# Altium integrated library IR Rectifier - Standard Recovery.IntLib: 457 symbols (part 4 of 6)
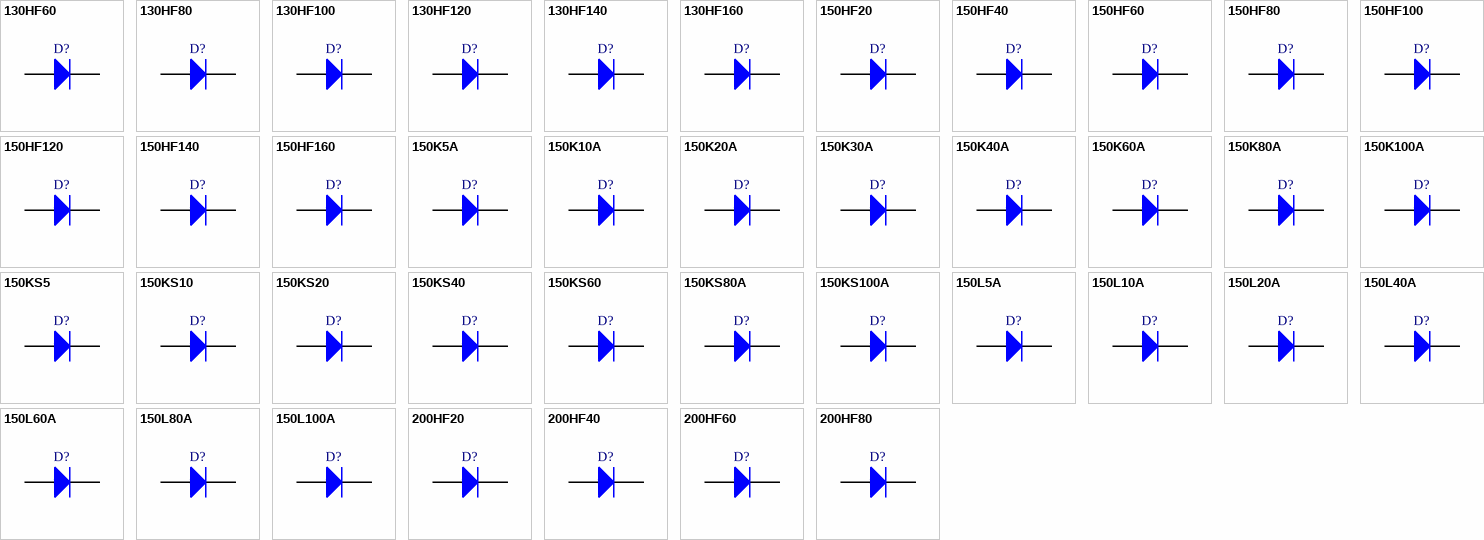
[diagram p14: symbols 130HF60 to 200HF80]

## 150K30A
designator D?
Standard Recovery Diode; Note: No PCB Footprint Available; Published: 8-Jun-2000; LatestRevisionDate: 17-Jul-2002; LatestRevisionNote: Re-released for DXP Platform.; DatasheetVersion: Jan-1997; PackageReference: DO-205AA; Publisher: Altium Limited; ComponentLink1Description: Manufacturer Link; ComponentLink1URL: http://www.irf.com/; ComponentLink2Description: Datasheet; ComponentLink2URL: http://www.irf.com/product-info/datasheets/data/150k.pdf
simulation model 150K30A (DIODE)
signal-integrity model 150K30A
pins: 1 A, 2 K

## 150K40A
designator D?
Standard Recovery Diode; Note: No PCB Footprint Available; Published: 8-Jun-2000; LatestRevisionDate: 17-Jul-2002; LatestRevisionNote: Re-released for DXP Platform.; DatasheetVersion: Jan-1997; PackageReference: DO-205AA; Publisher: Altium Limited; ComponentLink1Description: Manufacturer Link; ComponentLink1URL: http://www.irf.com/; ComponentLink2Description: Datasheet; ComponentLink2URL: http://www.irf.com/product-info/datasheets/data/150k.pdf
simulation model 150K40A (DIODE)
signal-integrity model 150K40A
pins: 1 A, 2 K

## 150K60A
designator D?
Standard Recovery Diode; Note: No PCB Footprint Available; Published: 8-Jun-2000; LatestRevisionDate: 17-Jul-2002; LatestRevisionNote: Re-released for DXP Platform.; DatasheetVersion: Jan-1997; PackageReference: DO-205AA; Publisher: Altium Limited; ComponentLink1Description: Manufacturer Link; ComponentLink1URL: http://www.irf.com/; ComponentLink2Description: Datasheet; ComponentLink2URL: http://www.irf.com/product-info/datasheets/data/150k.pdf
simulation model 150K60A (DIODE)
signal-integrity model 150K60A
pins: 1 A, 2 K

## 150K80A
designator D?
Standard Recovery Diode; Note: No PCB Footprint Available; Published: 8-Jun-2000; LatestRevisionDate: 17-Jul-2002; LatestRevisionNote: Re-released for DXP Platform.; DatasheetVersion: Jan-1997; PackageReference: DO-205AA; Publisher: Altium Limited; ComponentLink1Description: Manufacturer Link; ComponentLink1URL: http://www.irf.com/; ComponentLink2Description: Datasheet; ComponentLink2URL: http://www.irf.com/product-info/datasheets/data/150k.pdf
simulation model 150K80A (DIODE)
signal-integrity model 150K80A
pins: 1 A, 2 K

## 150K100A
designator D?
Standard Recovery Diode; Note: No PCB Footprint Available; Published: 8-Jun-2000; LatestRevisionDate: 17-Jul-2002; LatestRevisionNote: Re-released for DXP Platform.; DatasheetVersion: Jan-1997; PackageReference: DO-205AA; Publisher: Altium Limited; ComponentLink1Description: Manufacturer Link; ComponentLink1URL: http://www.irf.com/; ComponentLink2Description: Datasheet; ComponentLink2URL: http://www.irf.com/product-info/datasheets/data/150k.pdf
simulation model 150K100A (DIODE)
signal-integrity model 150K100A
pins: 1 A, 2 K

## 150KS5
designator D?
Standard Recovery Diode; Note: No PCB Footprint Available; Published: 8-Jun-2000; LatestRevisionDate: 17-Jul-2002; LatestRevisionNote: Re-released for DXP Platform.; DatasheetVersion: Jan-1997; PackageReference: B-42; Publisher: Altium Limited; ComponentLink1Description: Manufacturer Link; ComponentLink1URL: http://www.irf.com/; ComponentLink2Description: Datasheet; ComponentLink2URL: http://www.irf.com/product-info/datasheets/data/150k.pdf
simulation model 150KS5 (DIODE)
signal-integrity model 150KS5
pins: 1 A, 2 K

## 150KS10
designator D?
Standard Recovery Diode; Note: No PCB Footprint Available; Published: 8-Jun-2000; LatestRevisionDate: 17-Jul-2002; LatestRevisionNote: Re-released for DXP Platform.; DatasheetVersion: Jan-1997; PackageReference: B-42; Publisher: Altium Limited; ComponentLink1Description: Manufacturer Link; ComponentLink1URL: http://www.irf.com/; ComponentLink2Description: Datasheet; ComponentLink2URL: http://www.irf.com/product-info/datasheets/data/150k.pdf
simulation model 150KS10 (DIODE)
signal-integrity model 150KS10
pins: 1 A, 2 K

## 150KS20
designator D?
Standard Recovery Diode; Note: No PCB Footprint Available; Published: 8-Jun-2000; LatestRevisionDate: 17-Jul-2002; LatestRevisionNote: Re-released for DXP Platform.; DatasheetVersion: Jan-1997; PackageReference: B-42; Publisher: Altium Limited; ComponentLink1Description: Manufacturer Link; ComponentLink1URL: http://www.irf.com/; ComponentLink2Description: Datasheet; ComponentLink2URL: http://www.irf.com/product-info/datasheets/data/150k.pdf
simulation model 150KS20 (DIODE)
signal-integrity model 150KS20
pins: 1 A, 2 K

## 150KS40
designator D?
Standard Recovery Diode; Note: No PCB Footprint Available; Published: 8-Jun-2000; LatestRevisionDate: 17-Jul-2002; LatestRevisionNote: Re-released for DXP Platform.; DatasheetVersion: Jan-1997; PackageReference: B-42; Publisher: Altium Limited; ComponentLink1Description: Manufacturer Link; ComponentLink1URL: http://www.irf.com/; ComponentLink2Description: Datasheet; ComponentLink2URL: http://www.irf.com/product-info/datasheets/data/150k.pdf
simulation model 150KS40 (DIODE)
signal-integrity model 150KS40
pins: 1 A, 2 K

## 150KS60
designator D?
Standard Recovery Diode; Note: No PCB Footprint Available; Published: 8-Jun-2000; LatestRevisionDate: 17-Jul-2002; LatestRevisionNote: Re-released for DXP Platform.; DatasheetVersion: Jan-1997; PackageReference: B-42; Publisher: Altium Limited; ComponentLink1Description: Manufacturer Link; ComponentLink1URL: http://www.irf.com/; ComponentLink2Description: Datasheet; ComponentLink2URL: http://www.irf.com/product-info/datasheets/data/150k.pdf
simulation model 150KS60 (DIODE)
signal-integrity model 150KS60
pins: 1 A, 2 K

## 150KS80A
designator D?
Standard Recovery Diode; Note: No PCB Footprint Available; Published: 8-Jun-2000; LatestRevisionDate: 17-Jul-2002; LatestRevisionNote: Re-released for DXP Platform.; DatasheetVersion: Jan-1997; PackageReference: B-42; Publisher: Altium Limited; ComponentLink1Description: Manufacturer Link; ComponentLink1URL: http://www.irf.com/; ComponentLink2Description: Datasheet; ComponentLink2URL: http://www.irf.com/product-info/datasheets/data/150k.pdf
simulation model 150KS80A (DIODE)
signal-integrity model 150KS80A
pins: 1 A, 2 K

## 150KS100A
designator D?
Standard Recovery Diode; Note: No PCB Footprint Available; Published: 8-Jun-2000; LatestRevisionDate: 17-Jul-2002; LatestRevisionNote: Re-released for DXP Platform.; DatasheetVersion: Jan-1997; PackageReference: B-42; Publisher: Altium Limited; ComponentLink1Description: Manufacturer Link; ComponentLink1URL: http://www.irf.com/; ComponentLink2Description: Datasheet; ComponentLink2URL: http://www.irf.com/product-info/datasheets/data/150k.pdf
simulation model 150KS100A (DIODE)
signal-integrity model 150KS100A
pins: 1 A, 2 K

## 150L5A
designator D?
Standard Recovery Diode; Note: No PCB Footprint Available; Published: 8-Jun-2000; LatestRevisionDate: 17-Jul-2002; LatestRevisionNote: Re-released for DXP Platform.; DatasheetVersion: Jan-1997; PackageReference: DO-205AA; Publisher: Altium Limited; ComponentLink1Description: Manufacturer Link; ComponentLink1URL: http://www.irf.com/; ComponentLink2Description: Datasheet; ComponentLink2URL: http://www.irf.com/product-info/datasheets/data/150k.pdf
simulation model 150L5A (DIODE)
signal-integrity model 150L5A
pins: 1 A, 2 K

## 150L10A
designator D?
Standard Recovery Diode; Note: No PCB Footprint Available; Published: 8-Jun-2000; LatestRevisionDate: 17-Jul-2002; LatestRevisionNote: Re-released for DXP Platform.; DatasheetVersion: Jan-1997; PackageReference: DO-205AA; Publisher: Altium Limited; ComponentLink1Description: Manufacturer Link; ComponentLink1URL: http://www.irf.com/; ComponentLink2Description: Datasheet; ComponentLink2URL: http://www.irf.com/product-info/datasheets/data/150k.pdf
simulation model 150L10A (DIODE)
signal-integrity model 150L10A
pins: 1 A, 2 K

## 150L20A
designator D?
Standard Recovery Diode; Note: No PCB Footprint Available; Published: 8-Jun-2000; LatestRevisionDate: 17-Jul-2002; LatestRevisionNote: Re-released for DXP Platform.; DatasheetVersion: Jan-1997; PackageReference: DO-205AA; Publisher: Altium Limited; ComponentLink1Description: Manufacturer Link; ComponentLink1URL: http://www.irf.com/; ComponentLink2Description: Datasheet; ComponentLink2URL: http://www.irf.com/product-info/datasheets/data/150k.pdf
simulation model 150L20A (DIODE)
signal-integrity model 150L20A
pins: 1 A, 2 K

## 150L40A
designator D?
Standard Recovery Diode; Note: No PCB Footprint Available; Published: 8-Jun-2000; LatestRevisionDate: 17-Jul-2002; LatestRevisionNote: Re-released for DXP Platform.; DatasheetVersion: Jan-1997; PackageReference: DO-205AA; Publisher: Altium Limited; ComponentLink1Description: Manufacturer Link; ComponentLink1URL: http://www.irf.com/; ComponentLink2Description: Datasheet; ComponentLink2URL: http://www.irf.com/product-info/datasheets/data/150k.pdf
simulation model 150L40A (DIODE)
signal-integrity model 150L40A
pins: 1 A, 2 K

## 150L60A
designator D?
Standard Recovery Diode; Note: No PCB Footprint Available; Published: 8-Jun-2000; LatestRevisionDate: 17-Jul-2002; LatestRevisionNote: Re-released for DXP Platform.; DatasheetVersion: Jan-1997; PackageReference: DO-205AA; Publisher: Altium Limited; ComponentLink1Description: Manufacturer Link; ComponentLink1URL: http://www.irf.com/; ComponentLink2Description: Datasheet; ComponentLink2URL: http://www.irf.com/product-info/datasheets/data/150k.pdf
simulation model 150L60A (DIODE)
signal-integrity model 150L60A
pins: 1 A, 2 K

## 150L80A
designator D?
Standard Recovery Diode; Note: No PCB Footprint Available; Published: 8-Jun-2000; LatestRevisionDate: 17-Jul-2002; LatestRevisionNote: Re-released for DXP Platform.; DatasheetVersion: Jan-1997; PackageReference: DO-205AA; Publisher: Altium Limited; ComponentLink1Description: Manufacturer Link; ComponentLink1URL: http://www.irf.com/; ComponentLink2Description: Datasheet; ComponentLink2URL: http://www.irf.com/product-info/datasheets/data/150k.pdf
simulation model 150L80A (DIODE)
signal-integrity model 150L80A
pins: 1 A, 2 K

## 150L100A
designator D?
Standard Recovery Diode; Note: No PCB Footprint Available; Published: 8-Jun-2000; LatestRevisionDate: 17-Jul-2002; LatestRevisionNote: Re-released for DXP Platform.; DatasheetVersion: Jan-1997; PackageReference: DO-205AA; Publisher: Altium Limited; ComponentLink1Description: Manufacturer Link; ComponentLink1URL: http://www.irf.com/; ComponentLink2Description: Datasheet; ComponentLink2URL: http://www.irf.com/product-info/datasheets/data/150k.pdf
simulation model 150L100A (DIODE)
signal-integrity model 150L100A
pins: 1 A, 2 K

## 200HF20
designator D?
200 Amp Average Medium Power Silicon Rectifier Diode; Note: No PCB Footprint Available; Published: 8-Jun-2000; LatestRevisionDate: 17-Jul-2002; LatestRevisionNote: Re-released for DXP Platform.; DatasheetVersion: Aug-1990; PackageReference: DO-205AC; Publisher: Altium Limited; ComponentLink1Description: Manufacturer Link; ComponentLink1URL: http://www.irf.com/
simulation model 200HF20 (DIODE)
signal-integrity model 200HF20
pins: 1 A, 2 K

## 200HF40
designator D?
Standard Recovery Diode; Note: No PCB Footprint Available; Published: 8-Jun-2000; LatestRevisionDate: 17-Jul-2002; LatestRevisionNote: Re-released for DXP Platform.; DatasheetVersion: Jul-1994; PackageReference: DO-205AC; Publisher: Altium Limited; ComponentLink1Description: Manufacturer Link; ComponentLink1URL: http://www.irf.com/; ComponentLink2Description: Datasheet; ComponentLink2URL: http://www.irf.com/product-info/datasheets/data/200hf.pdf
simulation model 200HF40 (DIODE)
signal-integrity model 200HF40
pins: 1 A, 2 K

## 200HF60
designator D?
200 Amp Average Medium Power Silicon Rectifier Diode; Note: No PCB Footprint Available; Published: 8-Jun-2000; LatestRevisionDate: 17-Jul-2002; LatestRevisionNote: Re-released for DXP Platform.; DatasheetVersion: Aug-1990; PackageReference: DO-205AC; Publisher: Altium Limited; ComponentLink1Description: Manufacturer Link; ComponentLink1URL: http://www.irf.com/
simulation model 200HF60 (DIODE)
signal-integrity model 200HF60
pins: 1 A, 2 K

## 200HF80
designator D?
Standard Recovery Diode; Note: No PCB Footprint Available; Published: 8-Jun-2000; LatestRevisionDate: 17-Jul-2002; LatestRevisionNote: Re-released for DXP Platform.; DatasheetVersion: Jul-1994; PackageReference: DO-205AC; Publisher: Altium Limited; ComponentLink1Description: Manufacturer Link; ComponentLink1URL: http://www.irf.com/; ComponentLink2Description: Datasheet; ComponentLink2URL: http://www.irf.com/product-info/datasheets/data/200hf.pdf
simulation model 200HF80 (DIODE)
signal-integrity model 200HF80
pins: 1 A, 2 K

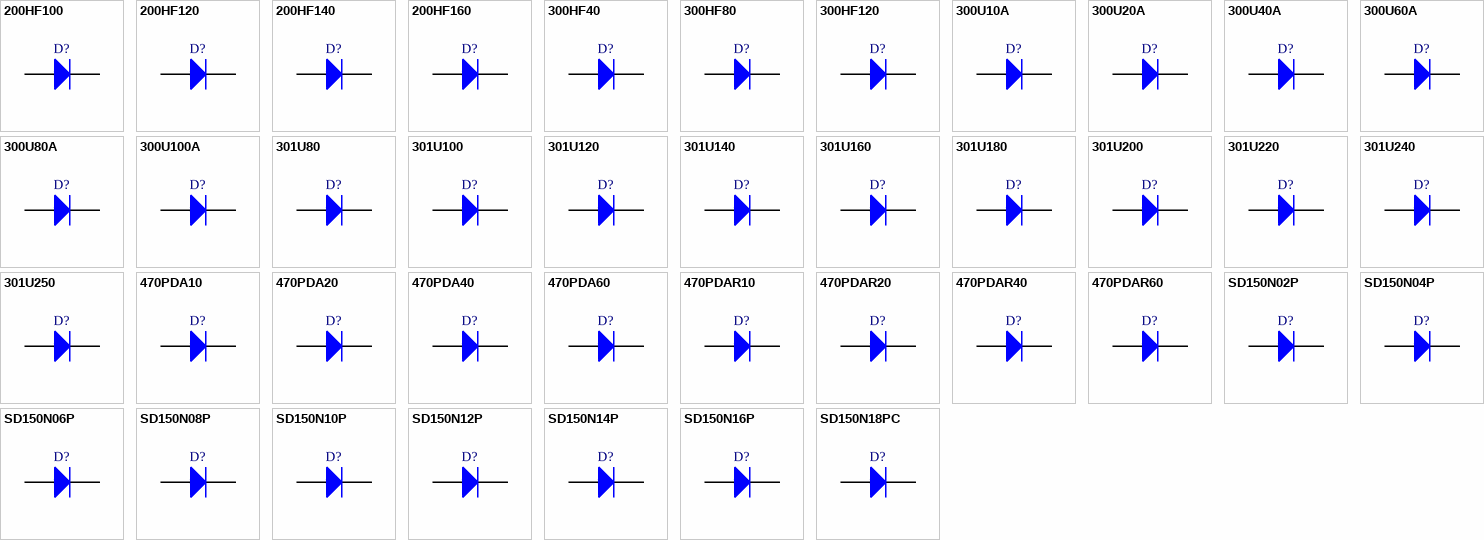
[diagram p7: symbols 200HF100 to SD150N18PC]

## 200HF100
designator D?
200 Amp Average Medium Power Silicon Rectifier Diode; Note: No PCB Footprint Available; Published: 8-Jun-2000; LatestRevisionDate: 17-Jul-2002; LatestRevisionNote: Re-released for DXP Platform.; DatasheetVersion: Aug-1990; PackageReference: DO-205AC; Publisher: Altium Limited; ComponentLink1Description: Manufacturer Link; ComponentLink1URL: http://www.irf.com/
simulation model 200HF100 (DIODE)
signal-integrity model 200HF100
pins: 1 A, 2 K

## 200HF120
designator D?
Standard Recovery Diode; Note: No PCB Footprint Available; Published: 8-Jun-2000; LatestRevisionDate: 17-Jul-2002; LatestRevisionNote: Re-released for DXP Platform.; DatasheetVersion: Jul-1994; PackageReference: DO-205AC; Publisher: Altium Limited; ComponentLink1Description: Manufacturer Link; ComponentLink1URL: http://www.irf.com/; ComponentLink2Description: Datasheet; ComponentLink2URL: http://www.irf.com/product-info/datasheets/data/200hf.pdf
simulation model 200HF120 (DIODE)
signal-integrity model 200HF120
pins: 1 A, 2 K

## 200HF140
designator D?
200 Amp Average Medium Power Silicon Rectifier Diode; Note: No PCB Footprint Available; Published: 8-Jun-2000; LatestRevisionDate: 17-Jul-2002; LatestRevisionNote: Re-released for DXP Platform.; DatasheetVersion: Aug-1990; PackageReference: DO-205AC; Publisher: Altium Limited; ComponentLink1Description: Manufacturer Link; ComponentLink1URL: http://www.irf.com/
simulation model 200HF140 (DIODE)
signal-integrity model 200HF140
pins: 1 A, 2 K

## 200HF160
designator D?
200 Amp Average Medium Power Silicon Rectifier Diode; Note: No PCB Footprint Available; Published: 8-Jun-2000; LatestRevisionDate: 17-Jul-2002; LatestRevisionNote: Re-released for DXP Platform.; DatasheetVersion: Aug-1990; PackageReference: DO-205AC; Publisher: Altium Limited; ComponentLink1Description: Manufacturer Link; ComponentLink1URL: http://www.irf.com/
simulation model 200HF160 (DIODE)
signal-integrity model 200HF160
pins: 1 A, 2 K

## 300HF40
designator D?
Standard Recovery Diode; Note: No PCB Footprint Available; Published: 8-Jun-2000; LatestRevisionDate: 17-Jul-2002; LatestRevisionNote: Re-released for DXP Platform.; DatasheetVersion: Jul-1994; PackageReference: DO-205AB; Publisher: Altium Limited; ComponentLink1Description: Manufacturer Link; ComponentLink1URL: http://www.irf.com/; ComponentLink2Description: Datasheet; ComponentLink2URL: http://www.irf.com/product-info/datasheets/data/300hf.pdf
simulation model 300HF40 (DIODE)
signal-integrity model 300HF40
pins: 1 A, 2 K

## 300HF80
designator D?
Standard Recovery Diode; Note: No PCB Footprint Available; Published: 8-Jun-2000; LatestRevisionDate: 17-Jul-2002; LatestRevisionNote: Re-released for DXP Platform.; DatasheetVersion: Jul-1994; PackageReference: DO-205AB; Publisher: Altium Limited; ComponentLink1Description: Manufacturer Link; ComponentLink1URL: http://www.irf.com/; ComponentLink2Description: Datasheet; ComponentLink2URL: http://www.irf.com/product-info/datasheets/data/300hf.pdf
simulation model 300HF80 (DIODE)
signal-integrity model 300HF80
pins: 1 A, 2 K

## 300HF120
designator D?
Standard Recovery Diode; Note: No PCB Footprint Available; Published: 8-Jun-2000; LatestRevisionDate: 17-Jul-2002; LatestRevisionNote: Re-released for DXP Platform.; DatasheetVersion: Jul-1994; PackageReference: DO-205AB; Publisher: Altium Limited; ComponentLink1Description: Manufacturer Link; ComponentLink1URL: http://www.irf.com/; ComponentLink2Description: Datasheet; ComponentLink2URL: http://www.irf.com/product-info/datasheets/data/300hf.pdf
simulation model 300HF120 (DIODE)
signal-integrity model 300HF120
pins: 1 A, 2 K

## 300U10A
designator D?
300 Amp Avg Power Silicon Rectifier Diode; Note: No PCB Footprint Available; Published: 8-Jun-2000; LatestRevisionDate: 17-Jul-2002; LatestRevisionNote: Re-released for DXP Platform.; DatasheetVersion: Jan-1986; PackageReference: DO-205AB; Publisher: Altium Limited; ComponentLink1Description: Manufacturer Link; ComponentLink1URL: http://www.irf.com/; ComponentLink2Description: Datasheet; ComponentLink2URL: http://www.irf.com/product-info/datasheets/data/70u.pdf
simulation model 300U10A (DIODE)
signal-integrity model 300U10A
pins: 1 A, 2 K

## 300U20A
designator D?
300 Amp Avg Power Silicon Rectifier Diode; Note: No PCB Footprint Available; Published: 8-Jun-2000; LatestRevisionDate: 17-Jul-2002; LatestRevisionNote: Re-released for DXP Platform.; DatasheetVersion: Jan-1986; PackageReference: DO-205AB; Publisher: Altium Limited; ComponentLink1Description: Manufacturer Link; ComponentLink1URL: http://www.irf.com/; ComponentLink2Description: Datasheet; ComponentLink2URL: http://www.irf.com/product-info/datasheets/data/70u.pdf
simulation model 300U20A (DIODE)
signal-integrity model 300U20A
pins: 1 A, 2 K

## 300U40A
designator D?
300 Amp Avg Power Silicon Rectifier Diode; Note: No PCB Footprint Available; Published: 8-Jun-2000; LatestRevisionDate: 17-Jul-2002; LatestRevisionNote: Re-released for DXP Platform.; DatasheetVersion: Jan-1986; PackageReference: DO-205AB; Publisher: Altium Limited; ComponentLink1Description: Manufacturer Link; ComponentLink1URL: http://www.irf.com/; ComponentLink2Description: Datasheet; ComponentLink2URL: http://www.irf.com/product-info/datasheets/data/70u.pdf
simulation model 300U40A (DIODE)
signal-integrity model 300U40A
pins: 1 A, 2 K

## 300U60A
designator D?
300 Amp Avg Power Silicon Rectifier Diode; Note: No PCB Footprint Available; Published: 8-Jun-2000; LatestRevisionDate: 17-Jul-2002; LatestRevisionNote: Re-released for DXP Platform.; DatasheetVersion: Jan-1986; PackageReference: DO-205AB; Publisher: Altium Limited; ComponentLink1Description: Manufacturer Link; ComponentLink1URL: http://www.irf.com/; ComponentLink2Description: Datasheet; ComponentLink2URL: http://www.irf.com/product-info/datasheets/data/70u.pdf
simulation model 300U60A (DIODE)
signal-integrity model 300U60A
pins: 1 A, 2 K

## 300U80A
designator D?
300 Amp Avg Power Silicon Rectifier Diode; Note: No PCB Footprint Available; Published: 8-Jun-2000; LatestRevisionDate: 17-Jul-2002; LatestRevisionNote: Re-released for DXP Platform.; DatasheetVersion: Jan-1986; PackageReference: DO-205AB; Publisher: Altium Limited; ComponentLink1Description: Manufacturer Link; ComponentLink1URL: http://www.irf.com/; ComponentLink2Description: Datasheet; ComponentLink2URL: http://www.irf.com/product-info/datasheets/data/70u.pdf
simulation model 300U80A (DIODE)
signal-integrity model 300U80A
pins: 1 A, 2 K

## 300U100A
designator D?
300 Amp Avg Power Silicon Rectifier Diode; Note: No PCB Footprint Available; Published: 8-Jun-2000; LatestRevisionDate: 17-Jul-2002; LatestRevisionNote: Re-released for DXP Platform.; DatasheetVersion: Jan-1986; PackageReference: DO-205AB; Publisher: Altium Limited; ComponentLink1Description: Manufacturer Link; ComponentLink1URL: http://www.irf.com/; ComponentLink2Description: Datasheet; ComponentLink2URL: http://www.irf.com/product-info/datasheets/data/70u.pdf
simulation model 300U100A (DIODE)
signal-integrity model 300U100A
pins: 1 A, 2 K

## 301U80
designator D?
Standard Recovery Diode; Note: No PCB Footprint Available; Published: 8-Jun-2000; LatestRevisionDate: 17-Jul-2002; LatestRevisionNote: Re-released for DXP Platform.; DatasheetVersion: Dec-1994; PackageReference: DO-205AB; Publisher: Altium Limited; ComponentLink1Description: Manufacturer Link; ComponentLink1URL: http://www.irf.com/; ComponentLink2Description: Datasheet; ComponentLink2URL: http://www.irf.com/product-info/datasheets/data/301u.pdf
simulation model 301U80 (DIODE)
signal-integrity model 301U80
pins: 1 A, 2 K

## 301U100
designator D?
Standard Recovery Rectifier; Note: No PCB Footprint Available; Published: 8-Jun-2000; LatestRevisionDate: 17-Jul-2002; LatestRevisionNote: Re-released for DXP Platform.; DatasheetVersion: Dec-1989; PackageReference: DO-205AB; Publisher: Altium Limited; ComponentLink1Description: Manufacturer Link; ComponentLink1URL: http://www.irf.com/
simulation model 301U100 (DIODE)
signal-integrity model 301U100
pins: 1 A, 2 K

## 301U120
designator D?
Standard Recovery Diode; Note: No PCB Footprint Available; Published: 8-Jun-2000; LatestRevisionDate: 17-Jul-2002; LatestRevisionNote: Re-released for DXP Platform.; DatasheetVersion: Dec-1994; PackageReference: DO-205AB; Publisher: Altium Limited; ComponentLink1Description: Manufacturer Link; ComponentLink1URL: http://www.irf.com/; ComponentLink2Description: Datasheet; ComponentLink2URL: http://www.irf.com/product-info/datasheets/data/301u.pdf
simulation model 301U120 (DIODE)
signal-integrity model 301U120
pins: 1 A, 2 K

## 301U140
designator D?
Standard Recovery Rectifier; Note: No PCB Footprint Available; Published: 8-Jun-2000; LatestRevisionDate: 17-Jul-2002; LatestRevisionNote: Re-released for DXP Platform.; DatasheetVersion: Dec-1989; PackageReference: DO-205AB; Publisher: Altium Limited; ComponentLink1Description: Manufacturer Link; ComponentLink1URL: http://www.irf.com/
simulation model 301U140 (DIODE)
signal-integrity model 301U140
pins: 1 A, 2 K

## 301U160
designator D?
Standard Recovery Diode; Note: No PCB Footprint Available; Published: 8-Jun-2000; LatestRevisionDate: 17-Jul-2002; LatestRevisionNote: Re-released for DXP Platform.; DatasheetVersion: Dec-1994; PackageReference: DO-205AB; Publisher: Altium Limited; ComponentLink1Description: Manufacturer Link; ComponentLink1URL: http://www.irf.com/; ComponentLink2Description: Datasheet; ComponentLink2URL: http://www.irf.com/product-info/datasheets/data/301u.pdf
simulation model 301U160 (DIODE)
signal-integrity model 301U160
pins: 1 A, 2 K

## 301U180
designator D?
Standard Recovery Rectifier; Note: No PCB Footprint Available; Published: 8-Jun-2000; LatestRevisionDate: 17-Jul-2002; LatestRevisionNote: Re-released for DXP Platform.; DatasheetVersion: Dec-1989; PackageReference: DO-205AB; Publisher: Altium Limited; ComponentLink1Description: Manufacturer Link; ComponentLink1URL: http://www.irf.com/
simulation model 301U180 (DIODE)
signal-integrity model 301U180
pins: 1 A, 2 K

## 301U200
designator D?
Standard Recovery Diode; Note: No PCB Footprint Available; Published: 8-Jun-2000; LatestRevisionDate: 17-Jul-2002; LatestRevisionNote: Re-released for DXP Platform.; DatasheetVersion: Dec-1994; PackageReference: DO-205AB; Publisher: Altium Limited; ComponentLink1Description: Manufacturer Link; ComponentLink1URL: http://www.irf.com/; ComponentLink2Description: Datasheet; ComponentLink2URL: http://www.irf.com/product-info/datasheets/data/301u.pdf
simulation model 301U200 (DIODE)
signal-integrity model 301U200
pins: 1 A, 2 K

## 301U220
designator D?
Standard Recovery Rectifier; Note: No PCB Footprint Available; Published: 8-Jun-2000; LatestRevisionDate: 17-Jul-2002; LatestRevisionNote: Re-released for DXP Platform.; DatasheetVersion: Dec-1989; PackageReference: DO-205AB; Publisher: Altium Limited; ComponentLink1Description: Manufacturer Link; ComponentLink1URL: http://www.irf.com/
simulation model 301U220 (DIODE)
signal-integrity model 301U220
pins: 1 A, 2 K

## 301U240
designator D?
Standard Recovery Rectifier; Note: No PCB Footprint Available; Published: 8-Jun-2000; LatestRevisionDate: 17-Jul-2002; LatestRevisionNote: Re-released for DXP Platform.; DatasheetVersion: Dec-1989; PackageReference: DO-205AB; Publisher: Altium Limited; ComponentLink1Description: Manufacturer Link; ComponentLink1URL: http://www.irf.com/
simulation model 301U240 (DIODE)
signal-integrity model 301U240
pins: 1 A, 2 K

## 301U250
designator D?
Standard Recovery Diode; Note: No PCB Footprint Available; Published: 8-Jun-2000; LatestRevisionDate: 17-Jul-2002; LatestRevisionNote: Re-released for DXP Platform.; DatasheetVersion: Dec-1994; PackageReference: DO-205AB; Publisher: Altium Limited; ComponentLink1Description: Manufacturer Link; ComponentLink1URL: http://www.irf.com/; ComponentLink2Description: Datasheet; ComponentLink2URL: http://www.irf.com/product-info/datasheets/data/301u.pdf
simulation model 301U250 (DIODE)
signal-integrity model 301U250
pins: 1 A, 2 K

## 470PDA10
designator D?
470 Amp Hockey Puk Rectifier Diode; Note: No PCB Footprint Available; Published: 8-Jun-2000; LatestRevisionDate: 17-Jul-2002; LatestRevisionNote: Re-released for DXP Platform.; DatasheetVersion: PD-2.181; PackageReference: DO-200AA; Publisher: Altium Limited; ComponentLink1Description: Manufacturer Link; ComponentLink1URL: http://www.irf.com/
simulation model 470PDA10 (DIODE)
signal-integrity model 470PDA10
pins: 1 A, 2 K

## 470PDA20
designator D?
470 Amp Hockey Puk Rectifier Diode; Note: No PCB Footprint Available; Published: 8-Jun-2000; LatestRevisionDate: 17-Jul-2002; LatestRevisionNote: Re-released for DXP Platform.; DatasheetVersion: PD-2.181; PackageReference: DO-200AA; Publisher: Altium Limited; ComponentLink1Description: Manufacturer Link; ComponentLink1URL: http://www.irf.com/
simulation model 470PDA20 (DIODE)
signal-integrity model 470PDA20
pins: 1 A, 2 K

## 470PDA40
designator D?
470 Amp Hockey Puk Rectifier Diode; Note: No PCB Footprint Available; Published: 8-Jun-2000; LatestRevisionDate: 17-Jul-2002; LatestRevisionNote: Re-released for DXP Platform.; DatasheetVersion: PD-2.181; PackageReference: DO-200AA; Publisher: Altium Limited; ComponentLink1Description: Manufacturer Link; ComponentLink1URL: http://www.irf.com/
simulation model 470PDA40 (DIODE)
signal-integrity model 470PDA40
pins: 1 A, 2 K

## 470PDA60
designator D?
470 Amp Hockey Puk Rectifier Diode; Note: No PCB Footprint Available; Published: 8-Jun-2000; LatestRevisionDate: 17-Jul-2002; LatestRevisionNote: Re-released for DXP Platform.; DatasheetVersion: PD-2.181; PackageReference: DO-200AA; Publisher: Altium Limited; ComponentLink1Description: Manufacturer Link; ComponentLink1URL: http://www.irf.com/
simulation model 470PDA60 (DIODE)
signal-integrity model 470PDA60
pins: 1 A, 2 K

## 470PDAR10
designator D?
Standard Recovery; Note: No PCB Footprint Available; Published: 8-Jun-2000; LatestRevisionDate: 17-Jul-2002; LatestRevisionNote: Re-released for DXP Platform.; DatasheetVersion: Jan-1990; PackageReference: DO-200AA; Publisher: Altium Limited; ComponentLink1Description: Manufacturer Link; ComponentLink1URL: http://www.irf.com/
simulation model 470PDAR10 (DIODE)
signal-integrity model 470PDAR10
pins: 1 K, 2 A

## 470PDAR20
designator D?
Standard Recovery; Note: No PCB Footprint Available; Published: 8-Jun-2000; LatestRevisionDate: 17-Jul-2002; LatestRevisionNote: Re-released for DXP Platform.; DatasheetVersion: Jan-1990; PackageReference: DO-200AA; Publisher: Altium Limited; ComponentLink1Description: Manufacturer Link; ComponentLink1URL: http://www.irf.com/
simulation model 470PDAR20 (DIODE)
signal-integrity model 470PDAR20
pins: 1 K, 2 A

## 470PDAR40
designator D?
Standard Recovery; Note: No PCB Footprint Available; Published: 8-Jun-2000; LatestRevisionDate: 17-Jul-2002; LatestRevisionNote: Re-released for DXP Platform.; DatasheetVersion: Jan-1990; PackageReference: DO-200AA; Publisher: Altium Limited; ComponentLink1Description: Manufacturer Link; ComponentLink1URL: http://www.irf.com/
simulation model 470PDAR40 (DIODE)
signal-integrity model 470PDAR40
pins: 1 K, 2 A

## 470PDAR60
designator D?
Standard Recovery; Note: No PCB Footprint Available; Published: 8-Jun-2000; LatestRevisionDate: 17-Jul-2002; LatestRevisionNote: Re-released for DXP Platform.; DatasheetVersion: Jan-1990; PackageReference: DO-200AA; Publisher: Altium Limited; ComponentLink1Description: Manufacturer Link; ComponentLink1URL: http://www.irf.com/
simulation model 470PDAR60 (DIODE)
signal-integrity model 470PDAR60
pins: 1 K, 2 A

## SD150N02P
designator D?
Standard Recovery Rectifier; Note: No PCB Footprint Available; Published: 8-Jun-2000; LatestRevisionDate: 17-Jul-2002; LatestRevisionNote: Re-released for DXP Platform.; PackageReference: DO-205AC; Publisher: Altium Limited; ComponentLink1Description: Manufacturer Link; ComponentLink1URL: http://www.irf.com/
simulation model SD150N02P (DIODE)
signal-integrity model SD150N02P
pins: 1 A, 2 K

## SD150N04P
designator D?
Standard Recovery Diode; Note: No PCB Footprint Available; Published: 8-Jun-2000; LatestRevisionDate: 17-Jul-2002; LatestRevisionNote: Re-released for DXP Platform.; DatasheetVersion: Jul-1994; PackageReference: DO-205AC; Publisher: Altium Limited; ComponentLink1Description: Manufacturer Link; ComponentLink1URL: http://www.irf.com/; ComponentLink2Description: Datasheet; ComponentLink2URL: http://www.irf.com/product-info/datasheets/data/sd150n.pdf
simulation model SD150N04P (DIODE)
signal-integrity model SD150N04P
pins: 1 A, 2 K

## SD150N06P
designator D?
Standard Recovery Rectifier; Note: No PCB Footprint Available; Published: 8-Jun-2000; LatestRevisionDate: 17-Jul-2002; LatestRevisionNote: Re-released for DXP Platform.; PackageReference: DO-205AC; Publisher: Altium Limited; ComponentLink1Description: Manufacturer Link; ComponentLink1URL: http://www.irf.com/
simulation model SD150N06P (DIODE)
signal-integrity model SD150N06P
pins: 1 A, 2 K

## SD150N08P
designator D?
Standard Recovery Diode; Note: No PCB Footprint Available; Published: 8-Jun-2000; LatestRevisionDate: 17-Jul-2002; LatestRevisionNote: Re-released for DXP Platform.; DatasheetVersion: Jul-1994; PackageReference: DO-205AC; Publisher: Altium Limited; ComponentLink1Description: Manufacturer Link; ComponentLink1URL: http://www.irf.com/; ComponentLink2Description: Datasheet; ComponentLink2URL: http://www.irf.com/product-info/datasheets/data/sd150n.pdf
simulation model SD150N08P (DIODE)
signal-integrity model SD150N08P
pins: 1 A, 2 K

## SD150N10P
designator D?
Standard Recovery Rectifier; Note: No PCB Footprint Available; Published: 8-Jun-2000; LatestRevisionDate: 17-Jul-2002; LatestRevisionNote: Re-released for DXP Platform.; PackageReference: DO-205AC; Publisher: Altium Limited; ComponentLink1Description: Manufacturer Link; ComponentLink1URL: http://www.irf.com/
simulation model SD150N10P (DIODE)
signal-integrity model SD150N10P
pins: 1 A, 2 K

## SD150N12P
designator D?
Standard Recovery Diode; Note: No PCB Footprint Available; Published: 8-Jun-2000; LatestRevisionDate: 17-Jul-2002; LatestRevisionNote: Re-released for DXP Platform.; DatasheetVersion: Jul-1994; PackageReference: DO-205AC; Publisher: Altium Limited; ComponentLink1Description: Manufacturer Link; ComponentLink1URL: http://www.irf.com/; ComponentLink2Description: Datasheet; ComponentLink2URL: http://www.irf.com/product-info/datasheets/data/sd150n.pdf
simulation model SD150N12P (DIODE)
signal-integrity model SD150N12P
pins: 1 A, 2 K

## SD150N14P
designator D?
Standard Recovery Rectifier; Note: No PCB Footprint Available; Published: 8-Jun-2000; LatestRevisionDate: 17-Jul-2002; LatestRevisionNote: Re-released for DXP Platform.; PackageReference: DO-205AC; Publisher: Altium Limited; ComponentLink1Description: Manufacturer Link; ComponentLink1URL: http://www.irf.com/
simulation model SD150N14P (DIODE)
signal-integrity model SD150N14P
pins: 1 A, 2 K

## SD150N16P
designator D?
Standard Recovery Diode; Note: No PCB Footprint Available; Published: 8-Jun-2000; LatestRevisionDate: 17-Jul-2002; LatestRevisionNote: Re-released for DXP Platform.; DatasheetVersion: Jul-1994; PackageReference: DO-205AC; Publisher: Altium Limited; ComponentLink1Description: Manufacturer Link; ComponentLink1URL: http://www.irf.com/; ComponentLink2Description: Datasheet; ComponentLink2URL: http://www.irf.com/product-info/datasheets/data/sd150n.pdf
simulation model SD150N16P (DIODE)
signal-integrity model SD150N16P
pins: 1 A, 2 K

## SD150N18PC
designator D?
Standard Recovery Rectifier; Note: No PCB Footprint Available; Published: 8-Jun-2000; LatestRevisionDate: 17-Jul-2002; LatestRevisionNote: Re-released for DXP Platform.; PackageReference: DO-205AC; Publisher: Altium Limited; ComponentLink1Description: Manufacturer Link; ComponentLink1URL: http://www.irf.com/
simulation model SD150N18PC (DIODE)
signal-integrity model SD150N18PC
pins: 1 A, 2 K

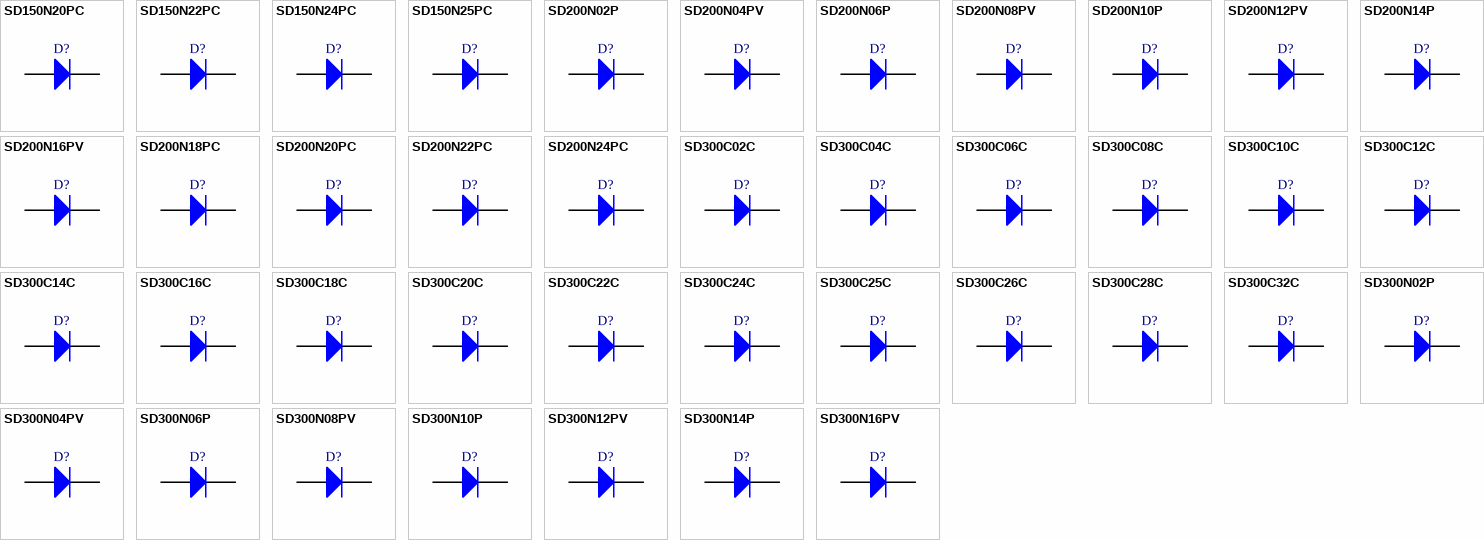
[diagram p8: symbols SD150N20PC to SD300N16PV]

## SD150N20PC
designator D?
Standard Recovery Diode; Note: No PCB Footprint Available; Published: 8-Jun-2000; LatestRevisionDate: 17-Jul-2002; LatestRevisionNote: Re-released for DXP Platform.; DatasheetVersion: Jul-1994; PackageReference: DO-205AC; Publisher: Altium Limited; ComponentLink1Description: Manufacturer Link; ComponentLink1URL: http://www.irf.com/; ComponentLink2Description: Datasheet; ComponentLink2URL: http://www.irf.com/product-info/datasheets/data/sd150n.pdf
simulation model SD150N20PC (DIODE)
signal-integrity model SD150N20PC
pins: 1 A, 2 K

## SD150N22PC
designator D?
Standard Recovery Rectifier; Note: No PCB Footprint Available; Published: 8-Jun-2000; LatestRevisionDate: 17-Jul-2002; LatestRevisionNote: Re-released for DXP Platform.; PackageReference: DO-205AC; Publisher: Altium Limited; ComponentLink1Description: Manufacturer Link; ComponentLink1URL: http://www.irf.com/
simulation model SD150N22PC (DIODE)
signal-integrity model SD150N22PC
pins: 1 A, 2 K

## SD150N24PC
designator D?
Standard Recovery Rectifier; Note: No PCB Footprint Available; Published: 8-Jun-2000; LatestRevisionDate: 17-Jul-2002; LatestRevisionNote: Re-released for DXP Platform.; PackageReference: DO-205AC; Publisher: Altium Limited; ComponentLink1Description: Manufacturer Link; ComponentLink1URL: http://www.irf.com/
simulation model SD150N24PC (DIODE)
signal-integrity model SD150N24PC
pins: 1 A, 2 K

## SD150N25PC
designator D?
Standard Recovery Diode; Note: No PCB Footprint Available; Published: 8-Jun-2000; LatestRevisionDate: 17-Jul-2002; LatestRevisionNote: Re-released for DXP Platform.; DatasheetVersion: Jul-1994; PackageReference: DO-205AC; Publisher: Altium Limited; ComponentLink1Description: Manufacturer Link; ComponentLink1URL: http://www.irf.com/; ComponentLink2Description: Datasheet; ComponentLink2URL: http://www.irf.com/product-info/datasheets/data/sd150n.pdf
simulation model SD150N25PC (DIODE)
signal-integrity model SD150N25PC
pins: 1 A, 2 K

## SD200N02P
designator D?
Standard Recovery Rectifier; Note: No PCB Footprint Available; Published: 8-Jun-2000; LatestRevisionDate: 17-Jul-2002; LatestRevisionNote: Re-released for DXP Platform.; DatasheetVersion: Dec-1989; PackageReference: DO-205AC; Publisher: Altium Limited; ComponentLink1Description: Manufacturer Link; ComponentLink1URL: http://www.irf.com/
simulation model SD200N02P (DIODE)
signal-integrity model SD200N02P
pins: 1 A, 2 K

## SD200N04PV
designator D?
Standard Recovery Diode; Note: No PCB Footprint Available; Published: 8-Jun-2000; LatestRevisionDate: 17-Jul-2002; LatestRevisionNote: Re-released for DXP Platform.; DatasheetVersion: Jul-1994; PackageReference: DO-205AC; Publisher: Altium Limited; ComponentLink1Description: Manufacturer Link; ComponentLink1URL: http://www.irf.com/; ComponentLink2Description: Datasheet; ComponentLink2URL: http://www.irf.com/product-info/datasheets/data/sd200n.pdf
simulation model SD200N04PV (DIODE)
signal-integrity model SD200N04PV
pins: 1 A, 2 K

## SD200N06P
designator D?
Standard Recovery Rectifier; Note: No PCB Footprint Available; Published: 8-Jun-2000; LatestRevisionDate: 17-Jul-2002; LatestRevisionNote: Re-released for DXP Platform.; DatasheetVersion: Dec-1989; PackageReference: DO-205AC; Publisher: Altium Limited; ComponentLink1Description: Manufacturer Link; ComponentLink1URL: http://www.irf.com/
simulation model SD200N06P (DIODE)
signal-integrity model SD200N06P
pins: 1 A, 2 K

## SD200N08PV
designator D?
Standard Recovery Diode; Note: No PCB Footprint Available; Published: 8-Jun-2000; LatestRevisionDate: 17-Jul-2002; LatestRevisionNote: Re-released for DXP Platform.; DatasheetVersion: Jul-1994; PackageReference: DO-205AC; Publisher: Altium Limited; ComponentLink1Description: Manufacturer Link; ComponentLink1URL: http://www.irf.com/; ComponentLink2Description: Datasheet; ComponentLink2URL: http://www.irf.com/product-info/datasheets/data/sd200n.pdf
simulation model SD200N08PV (DIODE)
signal-integrity model SD200N08PV
pins: 1 A, 2 K

## SD200N10P
designator D?
Standard Recovery Rectifier; Note: No PCB Footprint Available; Published: 8-Jun-2000; LatestRevisionDate: 17-Jul-2002; LatestRevisionNote: Re-released for DXP Platform.; DatasheetVersion: Dec-1989; PackageReference: DO-205AC; Publisher: Altium Limited; ComponentLink1Description: Manufacturer Link; ComponentLink1URL: http://www.irf.com/
simulation model SD200N10P (DIODE)
signal-integrity model SD200N10P
pins: 1 A, 2 K

## SD200N12PV
designator D?
Standard Recovery Diode; Note: No PCB Footprint Available; Published: 8-Jun-2000; LatestRevisionDate: 17-Jul-2002; LatestRevisionNote: Re-released for DXP Platform.; DatasheetVersion: Jul-1994; PackageReference: DO-205AC; Publisher: Altium Limited; ComponentLink1Description: Manufacturer Link; ComponentLink1URL: http://www.irf.com/; ComponentLink2Description: Datasheet; ComponentLink2URL: http://www.irf.com/product-info/datasheets/data/sd200n.pdf
simulation model SD200N12PV (DIODE)
signal-integrity model SD200N12PV
pins: 1 A, 2 K

## SD200N14P
designator D?
Standard Recovery Rectifier; Note: No PCB Footprint Available; Published: 8-Jun-2000; LatestRevisionDate: 17-Jul-2002; LatestRevisionNote: Re-released for DXP Platform.; DatasheetVersion: Dec-1989; PackageReference: DO-205AC; Publisher: Altium Limited; ComponentLink1Description: Manufacturer Link; ComponentLink1URL: http://www.irf.com/
simulation model SD200N14P (DIODE)
signal-integrity model SD200N14P
pins: 1 A, 2 K

## SD200N16PV
designator D?
Standard Recovery Diode; Note: No PCB Footprint Available; Published: 8-Jun-2000; LatestRevisionDate: 17-Jul-2002; LatestRevisionNote: Re-released for DXP Platform.; DatasheetVersion: Jul-1994; PackageReference: DO-205AC; Publisher: Altium Limited; ComponentLink1Description: Manufacturer Link; ComponentLink1URL: http://www.irf.com/; ComponentLink2Description: Datasheet; ComponentLink2URL: http://www.irf.com/product-info/datasheets/data/sd200n.pdf
simulation model SD200N16PV (DIODE)
signal-integrity model SD200N16PV
pins: 1 A, 2 K

## SD200N18PC
designator D?
Standard Recovery Rectifier; Note: No PCB Footprint Available; Published: 8-Jun-2000; LatestRevisionDate: 17-Jul-2002; LatestRevisionNote: Re-released for DXP Platform.; DatasheetVersion: Dec-1989; PackageReference: DO-205AC; Publisher: Altium Limited; ComponentLink1Description: Manufacturer Link; ComponentLink1URL: http://www.irf.com/
simulation model SD200N18PC (DIODE)
signal-integrity model SD200N18PC
pins: 1 A, 2 K

## SD200N20PC
designator D?
Standard Recovery Diode; Note: No PCB Footprint Available; Published: 8-Jun-2000; LatestRevisionDate: 17-Jul-2002; LatestRevisionNote: Re-released for DXP Platform.; DatasheetVersion: Jul-1994; PackageReference: DO-205AC; Publisher: Altium Limited; ComponentLink1Description: Manufacturer Link; ComponentLink1URL: http://www.irf.com/; ComponentLink2Description: Datasheet; ComponentLink2URL: http://www.irf.com/product-info/datasheets/data/sd200n.pdf
simulation model SD200N20PC (DIODE)
signal-integrity model SD200N20PC
pins: 1 A, 2 K

## SD200N22PC
designator D?
Standard Recovery Rectifier; Note: No PCB Footprint Available; Published: 8-Jun-2000; LatestRevisionDate: 17-Jul-2002; LatestRevisionNote: Re-released for DXP Platform.; DatasheetVersion: Dec-1989; PackageReference: DO-205AC; Publisher: Altium Limited; ComponentLink1Description: Manufacturer Link; ComponentLink1URL: http://www.irf.com/
simulation model SD200N22PC (DIODE)
signal-integrity model SD200N22PC
pins: 1 A, 2 K

## SD200N24PC
designator D?
Standard Recovery Diode; Note: No PCB Footprint Available; Published: 8-Jun-2000; LatestRevisionDate: 17-Jul-2002; LatestRevisionNote: Re-released for DXP Platform.; DatasheetVersion: Jul-1994; PackageReference: DO-205AC; Publisher: Altium Limited; ComponentLink1Description: Manufacturer Link; ComponentLink1URL: http://www.irf.com/; ComponentLink2Description: Datasheet; ComponentLink2URL: http://www.irf.com/product-info/datasheets/data/sd200n.pdf
simulation model SD200N24PC (DIODE)
signal-integrity model SD200N24PC
pins: 1 A, 2 K

## SD300C02C
designator D?
Standard Recovery Rectifier; Note: No PCB Footprint Available; Published: 8-Jun-2000; LatestRevisionDate: 17-Jul-2002; LatestRevisionNote: Re-released for DXP Platform.; DatasheetVersion: Dec-1989; PackageReference: DO-200AA; Publisher: Altium Limited; ComponentLink1Description: Manufacturer Link; ComponentLink1URL: http://www.irf.com/
simulation model SD300C02C (DIODE)
signal-integrity model SD300C02C
pins: 1 A, 2 K

## SD300C04C
designator D?
Standard Recovery Diode; Note: No PCB Footprint Available; Published: 8-Jun-2000; LatestRevisionDate: 17-Jul-2002; LatestRevisionNote: Re-released for DXP Platform.; DatasheetVersion: Aug-1994; PackageReference: DO-200AA; Publisher: Altium Limited; ComponentLink1Description: Manufacturer Link; ComponentLink1URL: http://www.irf.com/; ComponentLink2Description: Datasheet; ComponentLink2URL: http://www.irf.com/product-info/datasheets/data/sd300c-c.pdf
simulation model SD300C04C (DIODE)
signal-integrity model SD300C04C
pins: 1 A, 2 K

## SD300C06C
designator D?
Standard Recovery Rectifier; Note: No PCB Footprint Available; Published: 8-Jun-2000; LatestRevisionDate: 17-Jul-2002; LatestRevisionNote: Re-released for DXP Platform.; DatasheetVersion: Dec-1989; PackageReference: DO-200AA; Publisher: Altium Limited; ComponentLink1Description: Manufacturer Link; ComponentLink1URL: http://www.irf.com/
simulation model SD300C06C (DIODE)
signal-integrity model SD300C06C
pins: 1 A, 2 K

## SD300C08C
designator D?
Standard Recovery Diode; Note: No PCB Footprint Available; Published: 8-Jun-2000; LatestRevisionDate: 17-Jul-2002; LatestRevisionNote: Re-released for DXP Platform.; DatasheetVersion: Aug-1994; PackageReference: DO-200AA; Publisher: Altium Limited; ComponentLink1Description: Manufacturer Link; ComponentLink1URL: http://www.irf.com/; ComponentLink2Description: Datasheet; ComponentLink2URL: http://www.irf.com/product-info/datasheets/data/sd300c-c.pdf
simulation model SD300C08C (DIODE)
signal-integrity model SD300C08C
pins: 1 A, 2 K

## SD300C10C
designator D?
Standard Recovery Rectifier; Note: No PCB Footprint Available; Published: 8-Jun-2000; LatestRevisionDate: 17-Jul-2002; LatestRevisionNote: Re-released for DXP Platform.; DatasheetVersion: Dec-1989; PackageReference: DO-200AA; Publisher: Altium Limited; ComponentLink1Description: Manufacturer Link; ComponentLink1URL: http://www.irf.com/
simulation model SD300C10C (DIODE)
signal-integrity model SD300C10C
pins: 1 A, 2 K

## SD300C12C
designator D?
Standard Recovery Diode; Note: No PCB Footprint Available; Published: 8-Jun-2000; LatestRevisionDate: 17-Jul-2002; LatestRevisionNote: Re-released for DXP Platform.; DatasheetVersion: Aug-1994; PackageReference: DO-200AA; Publisher: Altium Limited; ComponentLink1Description: Manufacturer Link; ComponentLink1URL: http://www.irf.com/; ComponentLink2Description: Datasheet; ComponentLink2URL: http://www.irf.com/product-info/datasheets/data/sd300c-c.pdf
simulation model SD300C12C (DIODE)
signal-integrity model SD300C12C
pins: 1 A, 2 K

## SD300C14C
designator D?
Standard Recovery Rectifier; Note: No PCB Footprint Available; Published: 8-Jun-2000; LatestRevisionDate: 17-Jul-2002; LatestRevisionNote: Re-released for DXP Platform.; DatasheetVersion: Dec-1989; PackageReference: DO-200AA; Publisher: Altium Limited; ComponentLink1Description: Manufacturer Link; ComponentLink1URL: http://www.irf.com/
simulation model SD300C14C (DIODE)
signal-integrity model SD300C14C
pins: 1 A, 2 K

## SD300C16C
designator D?
Standard Recovery Diode; Note: No PCB Footprint Available; Published: 8-Jun-2000; LatestRevisionDate: 17-Jul-2002; LatestRevisionNote: Re-released for DXP Platform.; DatasheetVersion: Aug-1994; PackageReference: DO-200AA; Publisher: Altium Limited; ComponentLink1Description: Manufacturer Link; ComponentLink1URL: http://www.irf.com/; ComponentLink2Description: Datasheet; ComponentLink2URL: http://www.irf.com/product-info/datasheets/data/sd300c-c.pdf
simulation model SD300C16C (DIODE)
signal-integrity model SD300C16C
pins: 1 A, 2 K

## SD300C18C
designator D?
Standard Recovery Rectifier; Note: No PCB Footprint Available; Published: 8-Jun-2000; LatestRevisionDate: 17-Jul-2002; LatestRevisionNote: Re-released for DXP Platform.; DatasheetVersion: Dec-1989; PackageReference: DO-200AA; Publisher: Altium Limited; ComponentLink1Description: Manufacturer Link; ComponentLink1URL: http://www.irf.com/
simulation model SD300C18C (DIODE)
signal-integrity model SD300C18C
pins: 1 A, 2 K

## SD300C20C
designator D?
Standard Recovery Diode; Note: No PCB Footprint Available; Published: 8-Jun-2000; LatestRevisionDate: 17-Jul-2002; LatestRevisionNote: Re-released for DXP Platform.; DatasheetVersion: Aug-1994; PackageReference: DO-200AA; Publisher: Altium Limited; ComponentLink1Description: Manufacturer Link; ComponentLink1URL: http://www.irf.com/; ComponentLink2Description: Datasheet; ComponentLink2URL: http://www.irf.com/product-info/datasheets/data/sd300c-c.pdf
simulation model SD300C20C (DIODE)
signal-integrity model SD300C20C
pins: 1 A, 2 K

## SD300C22C
designator D?
Standard Recovery Rectifier; Note: No PCB Footprint Available; Published: 8-Jun-2000; LatestRevisionDate: 17-Jul-2002; LatestRevisionNote: Re-released for DXP Platform.; DatasheetVersion: Dec-1989; PackageReference: DO-200AA; Publisher: Altium Limited; ComponentLink1Description: Manufacturer Link; ComponentLink1URL: http://www.irf.com/
simulation model SD300C22C (DIODE)
signal-integrity model SD300C22C
pins: 1 A, 2 K

## SD300C24C
designator D?
Standard Recovery Rectifier; Note: No PCB Footprint Available; Published: 8-Jun-2000; LatestRevisionDate: 17-Jul-2002; LatestRevisionNote: Re-released for DXP Platform.; DatasheetVersion: Dec-1989; PackageReference: DO-200AA; Publisher: Altium Limited; ComponentLink1Description: Manufacturer Link; ComponentLink1URL: http://www.irf.com/
simulation model SD300C24C (DIODE)
signal-integrity model SD300C24C
pins: 1 A, 2 K

## SD300C25C
designator D?
Standard Recovery Diode; Note: No PCB Footprint Available; Published: 8-Jun-2000; LatestRevisionDate: 17-Jul-2002; LatestRevisionNote: Re-released for DXP Platform.; DatasheetVersion: Aug-1994; PackageReference: DO-200AA; Publisher: Altium Limited; ComponentLink1Description: Manufacturer Link; ComponentLink1URL: http://www.irf.com/; ComponentLink2Description: Datasheet; ComponentLink2URL: http://www.irf.com/product-info/datasheets/data/sd300c-c.pdf
simulation model SD300C25C (DIODE)
signal-integrity model SD300C25C
pins: 1 A, 2 K

## SD300C26C
designator D?
Standard Recovery Rectifier; Note: No PCB Footprint Available; Published: 8-Jun-2000; LatestRevisionDate: 17-Jul-2002; LatestRevisionNote: Re-released for DXP Platform.; DatasheetVersion: Dec-1989; PackageReference: DO-200AA; Publisher: Altium Limited; ComponentLink1Description: Manufacturer Link; ComponentLink1URL: http://www.irf.com/
simulation model SD300C26C (DIODE)
signal-integrity model SD300C26C
pins: 1 A, 2 K

## SD300C28C
designator D?
Standard Recovery Diode; Note: No PCB Footprint Available; Published: 8-Jun-2000; LatestRevisionDate: 17-Jul-2002; LatestRevisionNote: Re-released for DXP Platform.; DatasheetVersion: Aug-1994; PackageReference: DO-200AA; Publisher: Altium Limited; ComponentLink1Description: Manufacturer Link; ComponentLink1URL: http://www.irf.com/; ComponentLink2Description: Datasheet; ComponentLink2URL: http://www.irf.com/product-info/datasheets/data/sd300c-c.pdf
simulation model SD300C28C (DIODE)
signal-integrity model SD300C28C
pins: 1 A, 2 K

## SD300C32C
designator D?
Standard Recovery Diode; Note: No PCB Footprint Available; Published: 8-Jun-2000; LatestRevisionDate: 17-Jul-2002; LatestRevisionNote: Re-released for DXP Platform.; DatasheetVersion: Aug-1994; PackageReference: DO-200AA; Publisher: Altium Limited; ComponentLink1Description: Manufacturer Link; ComponentLink1URL: http://www.irf.com/; ComponentLink2Description: Datasheet; ComponentLink2URL: http://www.irf.com/product-info/datasheets/data/sd300c-c.pdf
simulation model SD300C32C (DIODE)
signal-integrity model SD300C32C
pins: 1 A, 2 K

## SD300N02P
designator D?
Standard Recovery Rectifier; Note: No PCB Footprint Available; Published: 8-Jun-2000; LatestRevisionDate: 17-Jul-2002; LatestRevisionNote: Re-released for DXP Platform.; DatasheetVersion: Dec-1989; PackageReference: DO-205AB; Publisher: Altium Limited; ComponentLink1Description: Manufacturer Link; ComponentLink1URL: http://www.irf.com/
simulation model SD300N02P (DIODE)
signal-integrity model SD300N02P
pins: 1 A, 2 K

## SD300N04PV
designator D?
Standard Recovery Diode; Note: No PCB Footprint Available; Published: 8-Jun-2000; LatestRevisionDate: 17-Jul-2002; LatestRevisionNote: Re-released for DXP Platform.; DatasheetVersion: Aug-1994; PackageReference: DO-205AB; Publisher: Altium Limited; ComponentLink1Description: Manufacturer Link; ComponentLink1URL: http://www.irf.com/; ComponentLink2Description: Datasheet; ComponentLink2URL: http://www.irf.com/product-info/datasheets/data/sd300n.pdf
simulation model SD300N04PV (DIODE)
signal-integrity model SD300N04PV
pins: 1 A, 2 K